# Altium schematic symbol library TPD4E02B04.Schlib: 1 symbol
Pins are listed as number, name and electrical type; pins without a type are passive.

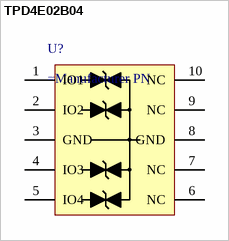
[diagram p0: symbol TPD4E02B04]

## TPD4E02B04
designator U?
Quad TVS diodes 10-pin
pins: 1 IO1, 2 IO2, 3 GND, 4 IO3, 5 IO4, 6 NC, 7 NC, 8 GND, 9 NC, 10 NC